# Altium footprint library 羽毛球团队.PcbLib: 75 footprints (part 3 of 5)
Each footprint in its own frame and in the unit in brackets; x right, y up, seen from the top. Pads: shape width x height; smd on the part's side, far side on the other; paste and mask are expansions set on the pad; w line width, h text height; cw(c..) or ccw(c..) is an arc to the next point about the centre after c.
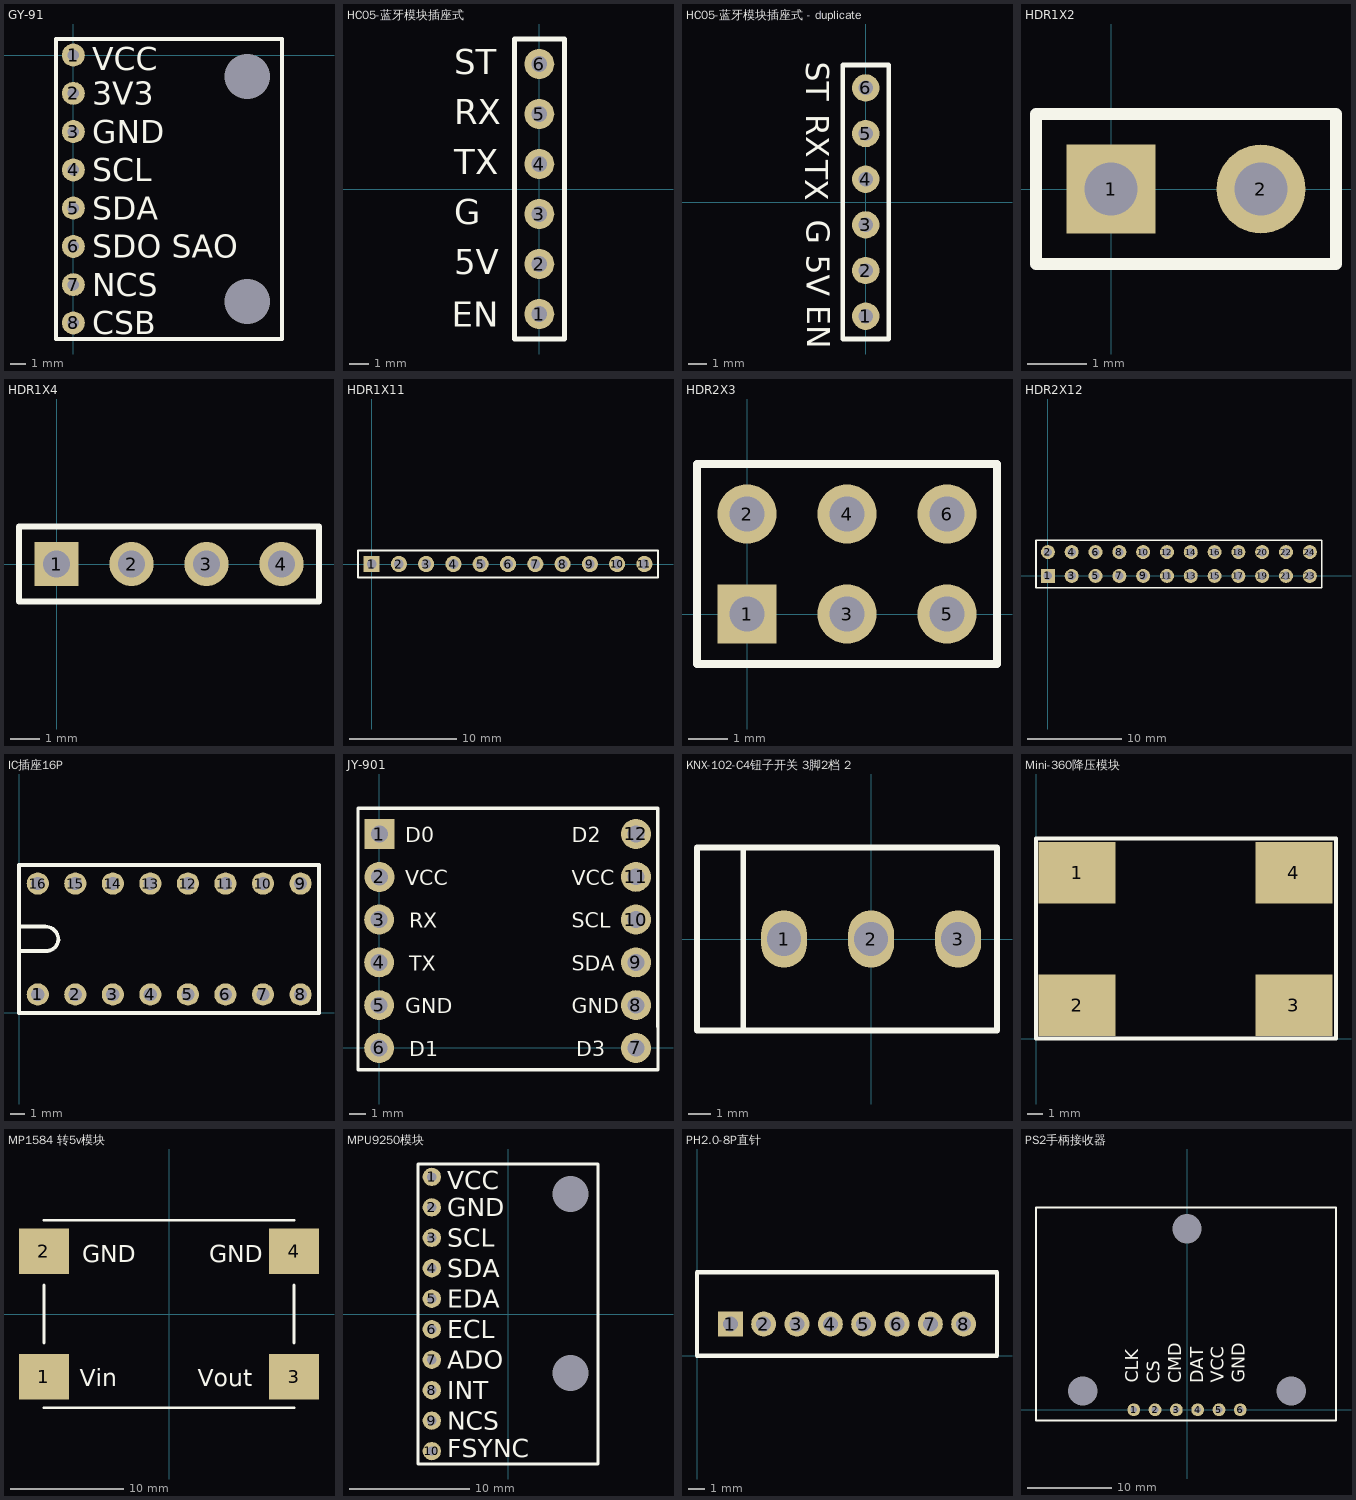
[diagram p2: the footprints below, top view; thin cyan lines are the x and y axes]

## GY-91 [mil]
pads (10):
  round 0 hole 118.11: 0(454.72,-643.7) 0(454.72,-56.3)
  round 60 hole 30: 1(0,0) 2(0,-100) 3(0,-200) 4(0,-300) 5(0,-400) 6(0,-500) 7(0,-600) 8(0,-700)
Top Overlay:
  lines w10: -45.28,-742.13 -45.28,42.13 545.28,42.13 545.28,-742.13 -45.28,-742.13
  text "CSB" at 50,-730 h60
  text "NCS" at 50,-630 h60
  text "SDO SAO" at 50,-530 h60
  text "SDA" at 50,-430 h60
  text "SCL" at 50,-330 h60
  text "GND" at 50,-230 h60
  text "3V3" at 50,-130 h60
  text "VCC" at 50,-40 h60

## HC05-蓝牙模块插座式 [mil]
height 68.9
pads (6):
  round 60 hole 31.5: 1(0,-250) 2(0,-150) 3(0,-50) 4(0,50) 5(0,150) 6(0,250)
Top Overlay:
  lines w10: -50,-300 -50,300 50,300 50,-300 -50,-300
  text "EN" at -175,-275 h50
  text "5V" at -170,-170 h50
  text "G" at -170,-70 h50
  text "TX" at -170,30 h50
  text "RX" at -170,130 h50
  text "ST" at -170,230 h50

## HC05-蓝牙模块插座式 - duplicate [mil]
pads (6):
  round 60 hole 31.5: 1(0,-250) 2(0,-150) 3(0,-50) 4(0,50) 5(0,150) 6(0,250)
Top Overlay:
  lines w10: -50,-300 50,-300 50,300 -50,300 -50,-300
  text "ST" at -130,307 h50
  text "RX" at -130,192 h50
  text "TX" at -132,91 h50
  text "G" at -129,-39 h50
  text "5V" at -129,-115 h50
  text "EN" at -128,-226 h50

## HDR1X2 [mm] "Connector; Header; 2 Position"
height 1.75
pads (2):
  rect 1.5x1.5 hole 0.9: 1(0,0)
  round 1.5 hole 0.9: 2(2.54,0)
Top Overlay:
  lines w0.2: -1.27,-1.27 3.81,-1.27 3.81,1.27 -1.27,1.27 -1.27,-1.27

## HDR1X4 [mm] "Connector; Header; 4 Position"
height 1.75
pads (4):
  rect 1.5x1.5 hole 0.9: 1(0,0)
  round 1.5 hole 0.9: 2(2.54,0) 3(5.08,0) 4(7.62,0)
Top Overlay:
  lines w0.2: -1.27,-1.27 8.89,-1.27 8.89,1.27 -1.27,1.27 -1.27,-1.27

## HDR1X11 [mm] "Connector; Header; 11 Position"
pads (11):
  rect 1.5x1.5 hole 0.9: 1(0,0)
  round 1.5 hole 0.9: 2(2.54,0) 3(5.08,0) 4(7.62,0) 5(10.16,0) 6(12.7,0) 7(15.24,0) 8(17.78,0) 9(20.32,0) 10(22.86,0) 11(25.4,0)
Top Overlay:
  lines w0.2: -1.27,-1.27 26.67,-1.27 26.67,1.27 0.635,1.27 -1.27,1.27 -1.27,-1.27

## HDR2X3 [mm] "Connector; Header; 3x2 Position"
height 1.75
pads (6):
  rect 1.5x1.5 hole 0.9: 1(0,0)
  round 1.5 hole 0.9: 2(0,2.54) 3(2.54,0) 4(2.54,2.54) 5(5.08,0) 6(5.08,2.54)
Top Overlay:
  lines w0.2: 1.482,-1.27 6.35,-1.27 ; 6.35,-1.27 6.35,3.81 -1.27,3.81 -1.27,-1.27 6.35,-1.27

## HDR2X12 [mm] "Connector; Header; 12x2 Position"
pads (24):
  rect 1.5x1.5 hole 0.9: 1(0,0)
  round 1.5 hole 0.9: 2(0,2.54) 3(2.54,0) 4(2.54,2.54) 5(5.08,0) 6(5.08,2.54) 7(7.62,0) 8(7.62,2.54) 9(10.16,0) 10(10.16,2.54) 11(12.7,0) 12(12.7,2.54) 13(15.24,0) 14(15.24,2.54) 15(17.78,0) 16(17.78,2.54) 17(20.32,0) 18(20.32,2.54) 19(22.86,0) 20(22.86,2.54) 21(25.4,0) 22(25.4,2.54) 23(27.94,0) 24(27.94,2.54)
Top Overlay:
  lines w0.2: -1.27,-1.27 -1.27,3.81 29.21,3.81 29.21,-1.27 -1.27,-1.27

## IC插座16P [mm]
pads (16):
  round 1.5 hole 0.9: 1(1.27,1.25) 2(3.81,1.25) 3(6.35,1.25) 4(8.89,1.25) 5(11.43,1.25) 6(13.97,1.25) 7(16.51,1.25) 8(19.05,1.25) 9(19.05,8.75) 10(16.51,8.75) 11(13.97,8.75) 12(11.43,8.75) 13(8.89,8.75) 14(6.35,8.75) 15(3.81,8.75) 16(1.27,8.75)
Top Overlay:
  lines w0.254: 0.127,4.191 1.778,4.191 ccw(c1.841,5.017) 2.667,4.953 ccw(c1.778,4.953) 1.778,5.842 0.127,5.842 ; 0,0 0,10 20.3,10 20.3,0 0,0

## JY-901 [mil]
pads (12):
  rect 70x70 hole 39.37: 1(0.63,499.63)
  round 70 hole 39.37: 2(0.63,399.63) 3(0,300) 4(0,200) 5(0,100) 6(0,0) 7(600,0) 8(600,100) 9(600,200) 10(600,300) 11(600,400) 12(600,500)
Top Overlay:
  lines w7.87: -49.37,49.63 -49.37,449.63 ; 650.63,449.63 650.63,49.63 651.63,49.63
  lines w8: -49.37,49.63 -49.37,-51.37 651.63,-51.37 651.63,49.63 ; -49.37,449.63 -49.37,560.63 650.63,560.63 650.63,449.63
  text "D3" at 460.63,-19.37 h35
  text "D2" at 450.63,480.63 h35
  text "D1" at 70.63,-19.37 h35
  text "D0" at 60.63,480.63 h35
  text "SCL" at 450.63,280.63 h35
  text "SDA" at 450.63,180.63 h35
  text "TX" at 70.63,180.63 h35
  text "RX" at 70.63,280.63 h35
  text "GND" at 450.63,80.63 h35
  text "GND" at 60.63,80.63 h35
  text "VCC" at 450.63,380.63 h35
  text "VCC" at 60.63,380.63 h35

## KNX-102-C4钮子开关 3脚2档 2 [mm]
pads (3):
  oval 2x2.5 hole 1.5: 1(-3.81,0) 2(-0.01,0) 3(3.79,0)
Top Overlay:
  lines w0.254: -5.588,-4 -5.588,4 ; -7.61,-4 5.49,-4 5.49,4 -7.61,4 -7.61,-4

## Mini-360降压模块 [mm]
pads (4):
  rect 5x4 smd: 1(2.667,10.795) 2(2.667,2.159) 3(16.764,2.159) 4(16.764,10.795)
Top Overlay:
  lines w0.254: 0,0 0,13 19.5,13 19.5,0 0,0

## MP1584 转5v模块 [mm]
pads (4):
  rect 4.4x4 smd: 1(-11,-5.52) 2(-11,5.52) 3(11,-5.52) 4(11,5.52)
Top Overlay:
  lines w0.254: -11,-8.25 11,-8.25 ; -11,-2.54 -11,2.54 ; -11,8.25 11,8.25 ; 11,-2.54 11,2.54
  text "Vout" at 2.54,-6.35 h1.52
  text "GND" at 3.556,4.572 h1.52
  text "GND" at -7.62,4.572 h1.52
  text "Vin" at -7.874,-6.35 h1.52

## MPU9250模块 [mil]
pads (12):
  round 0 hole 118.11: 0(204.72,-193.7) 0(204.72,393.7)
  round 60 hole 30: 1(-250,450) 2(-250,350) 3(-250,250) 4(-250,150) 5(-250,50) 6(-250,-50) 7(-250,-150) 8(-250,-250) 9(-250,-350) 10(-250,-450)
Top Overlay:
  lines w10: -295.28,-492.13 295.28,-492.13 295.28,492.13 -295.28,492.13 -295.28,-492.13
  text "VCC" at -200,410 h60
  text "GND" at -200,320 h60
  text "SCL" at -200,220 h60
  text "SDA" at -200,120 h60
  text "EDA" at -200,20 h60
  text "ECL" at -200,-80 h60
  text "ADO" at -200,-180 h60
  text "INT" at -200,-280 h60
  text "NCS" at -200,-380 h60
  text "FSYNC" at -200,-470 h60

## PH2.0-8P直针 [mm]
pads (8):
  rect 1.5x1.5 hole 0.9: 1(2,1.9)
  round 1.5 hole 0.9: 2(4,1.9) 3(6,1.9) 4(8,1.9) 5(10,1.9) 6(12,1.9) 7(14,1.9) 8(16,1.9)
Top Overlay:
  lines w0.254: 0,0 0,5 18,5 18,0 0,0

## PS2手柄接收器 [mm]
pads (9):
  round 0 hole 3.5: 0(-12.45,2.25) 0(0,21.6) 0(12.45,2.25)
  round 1.524 hole 0.8: 1(-6.35,0) 2(-3.81,0) 3(-1.27,0) 4(1.27,0) 5(3.81,0) 6(6.35,0)
Top Overlay:
  lines w0.254: -18.02,-1.27 -18.02,24.13 -17.78,24.13 17.78,24.13 17.78,-1.27 -18.02,-1.27
  text "CLK" at -5.791,3.2 h1.52
  text "CS" at -3.226,3.099 h1.52
  text "CMD" at -0.66,3.15 h1.52
  text "DAT" at 1.956,3.175 h1.52
  text "VCC" at 4.369,3.226 h1.52
  text "GND" at 6.883,3.251 h1.52